# Altium schematic symbol library CL32B106KBJNNNE.SchLib: 1 symbol
Pins are listed as number, name and electrical type; pins without a type are passive.

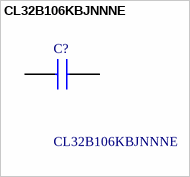
[diagram p0: symbol CL32B106KBJNNNE]

## CL32B106KBJNNNE
designator C?
Samsung Electro-Mechanics 1210 CL 10uF Ceramic Multilayer Capacitor, 50 V, +125C, X7R Dielectric, +/-10% SMD; Geometry.Height: 2.7mm; Mouser Part Number: 187-CL32B106KBJNNNE; Mouser Price/Stock: https://www.mouser.co.uk/ProductDetail/Samsung-Electro-Mechanics/CL32B106KBJNNNE?qs=349EhDEZ59rXK%2FOM74I5cg%3D%3D; Manufacturer_Name: SAMSUNG; Manufacturer_Part_Number: CL32B106KBJNNNE; Datasheet Link: https://datasheet.datasheetarchive.com/originals/distributors/Datasheets-DGA10/2406903.pdf
footprint CAPC3225X270N
pins: 1, 2